# Altium footprint library WePcbLib.PcbLib: 177 footprints (part 1 of 12)
Each footprint in its own frame and in the unit in brackets; x right, y up, seen from the top. Pads: shape width x height; smd on the part's side, far side on the other; paste and mask are expansions set on the pad; w line width, h text height; cw(c..) or ccw(c..) is an arc to the next point about the centre after c.
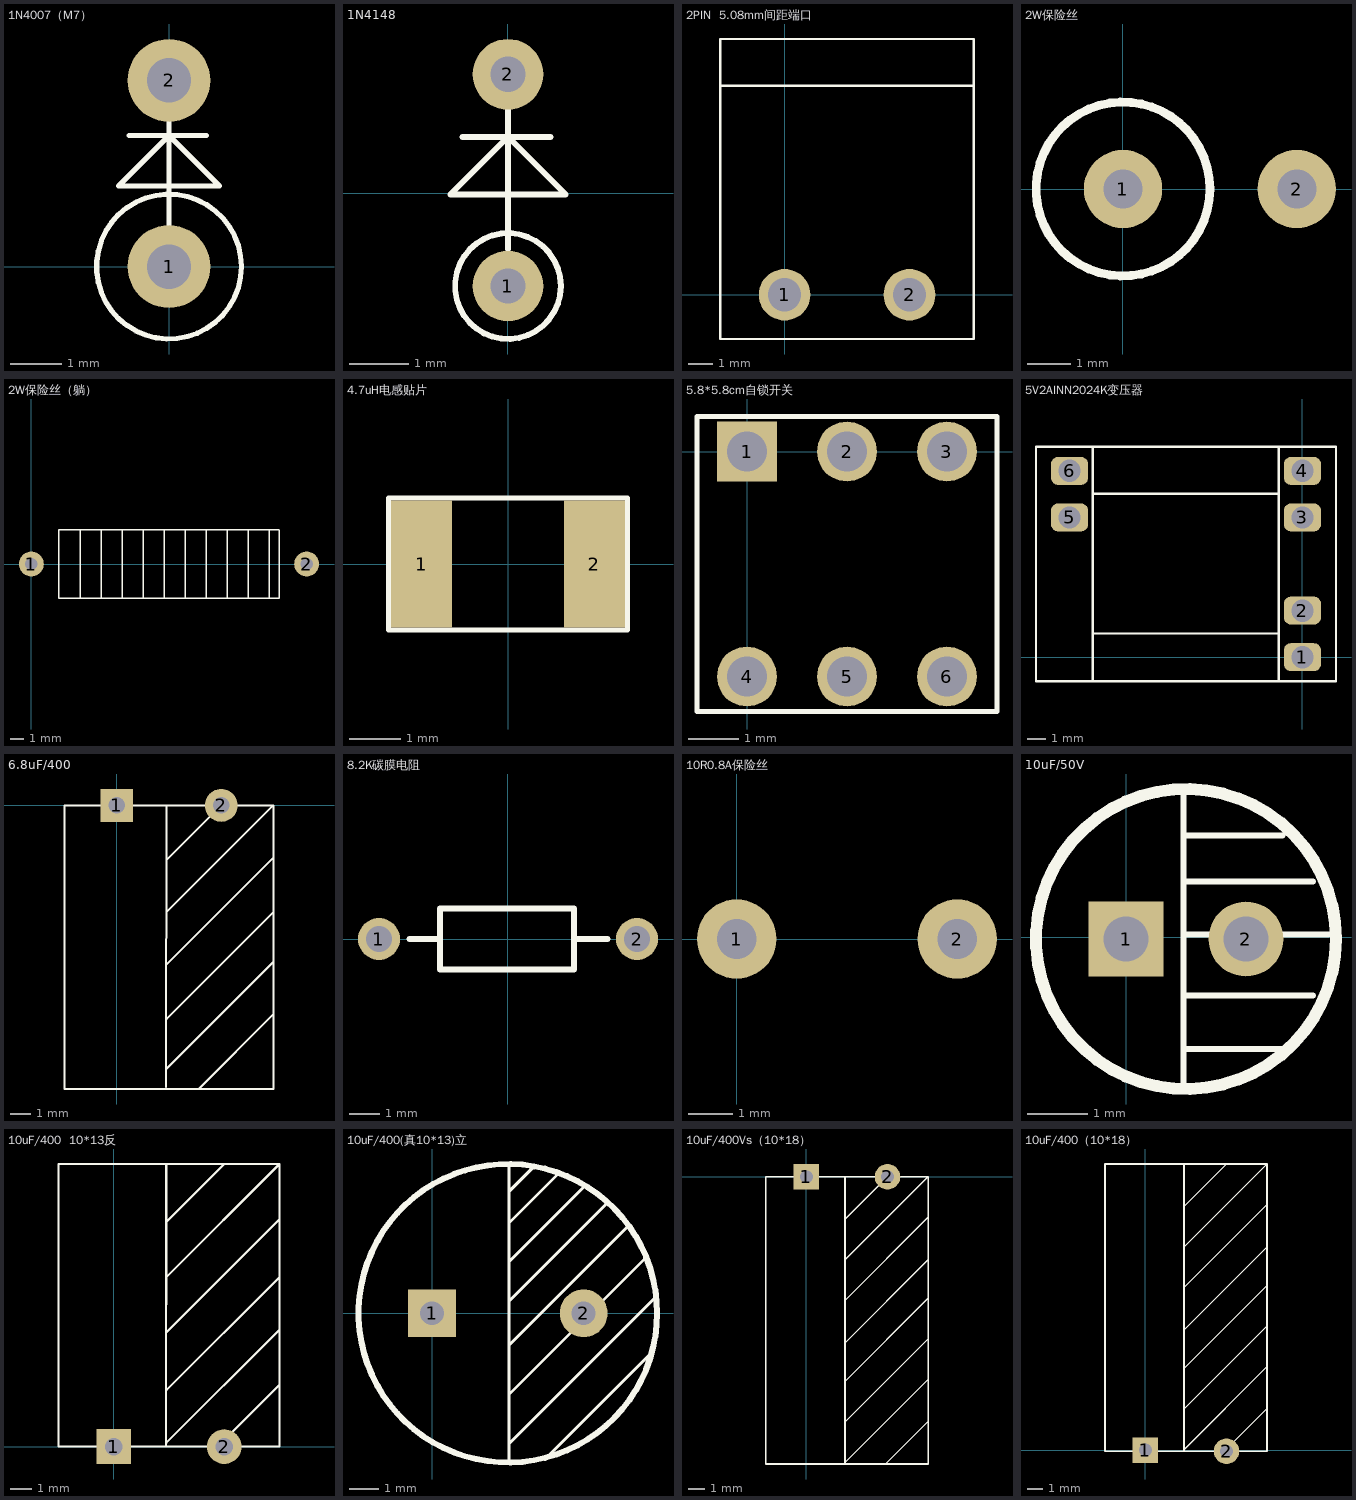
[diagram p0: the footprints below, top view; thin cyan lines are the x and y axes]

## 1N4007（M7） [mm]
pads (2):
  round 1.6 hole 0.86: 1(0,0) 2(0,3.6)
Top Overlay:
  circle w0.1: c0,0 r1.4
  lines w0.1: -0.775,2.536 0.725,2.536 ; 0,0.632 0,3.207 ; -0.976,1.56 0,2.536 0.977,1.56 -0.976,1.56

## 1N4148 [mm]
pads (2):
  round 1.2 hole 0.6: 1(0,-1.575) 2(0,2.025)
Top Overlay:
  circle w0.1: c0,-1.575 r0.9
  lines w0.1: -0.775,0.961 0.725,0.961 ; 0,-0.943 0,1.632 ; -0.976,-0.015 0.977,-0.015 0,0.961 -0.976,-0.015

## 2PIN  5.08mm间距端口 [mm]
pads (2):
  round 2.1 hole 1.35: 1(0,0) 2(5.08,0)
Top Overlay:
  lines w0.1: -2.618,-1.8 7.69,-1.8 7.69,10.4 -2.61,10.4 -2.61,-1.8 ; -2.61,8.5 7.69,8.5

## 2W保险丝 [mm]
pads (2):
  round 1.8 hole 0.9: 1(0,0) 2(4,0)
Top Overlay:
  circle w0.2: c0,0 r2

## 2W保险丝（躺） [mm]
pads (2):
  round 1.8 hole 0.9: 1(0,0) 2(20,0)
Top Overlay:
  lines w0.1: 3.556,-2.413 3.556,2.413 ; 5.08,-2.413 5.08,2.413 ; 6.604,-2.413 6.604,2.413 ; 8.128,-2.413 8.128,2.413 ; 9.652,-2.413 9.652,2.413 ; 11.176,-2.413 11.176,2.413 ; 12.7,-2.413 12.7,2.413 ; 14.224,-2.413 14.224,2.413 ; 15.748,-2.413 15.748,2.413 ; 17.272,-2.413 17.272,2.413 ; 17.975,2.5 2,2.5 2,-2.5 18,-2.5 18,2.5

## 4.7uH电感贴片 [mm]
pads (2):
  rect 1.2x2.5 smd: 1(-1.7,0) 2(1.7,0)
Top Overlay:
  lines w0.1: -2.35,-1.3 2.35,-1.3 2.35,1.3 -2.35,1.3 -2.35,-1.3

## 5.8*5.8cm自锁开关 [mm]
height 4.6
pads (6):
  rect 1.2x1.2 hole 0.8: 1(0,0)
  round 1.2 hole 0.8: 2(2,0) 3(4,0) 4(0,-4.5) 5(2,-4.5) 6(4,-4.5)
Top Overlay:
  lines w0.1: -1,-5.2 5,-5.2 5,0.7 -1,0.7 -1,-5.2

## 5V2AINN2024K变压器 [mm]
pads (6):
  rrect50% 2x1.5 hole 1.2: 1(0,0) 2(0,2.5) 3(0,7.5) 4(0,10) 5(-12.5,7.5) 6(-12.5,10)
Top Overlay:
  lines w0.127: -11.246,-1.3 -11.246,11.3 ; -11.176,1.27 -1.27,1.27 ; -11.176,8.763 -1.27,8.763 ; -1.27,-1.27 -1.27,11.303 ; -14.3,-1.3 1.8,-1.3 1.8,11.3 -14.3,11.3 -14.3,-1.3

## 6.8uF/400 [mm]
pads (2):
  rect 1.6x1.6 hole 0.8: 1(0,0)
  round 1.6 hole 0.8: 2(5.08,0)
Top Overlay:
  lines w0.1: -2.54,-13.8 7.62,-13.8 ; -2.54,-13.75 -2.54,0 7.62,0 ; 2.4,-13.7 2.4,-12.475 ; 2.403,-12.95 2.413,0 ; 2.413,-10.414 7.62,-5.207 7.62,-5.08 ; 2.413,-7.747 7.62,-2.54 ; 2.413,-5.207 7.62,0 ; 2.413,-2.667 5.08,0 5.08,-0.127 ; 4.003,-13.777 7.62,-10.16 ; 7.62,-13.75 7.62,0 ; 2.413,-12.827 7.62,-7.62 2.413,-12.827

## 8.2K碳膜电阻 [mm]
pads (2):
  round 1.4 hole 0.85: 1(-4.3,0) 2(4.3,0)
Top Overlay:
  lines w0.2: -3.284,0 -2.268,0 ; 2.3,0 3.316,0 ; -2.268,-1.016 -2.268,1.016 2.2,1.016 2.2,-1.016 -2.268,-1.016

## 10R0.8A保险丝 [mm]
pads (2):
  round 1.8 hole 0.9: 1(0,0) 2(5,0)

## 10uF/50V [mm]
pads (2):
  rect 1.25x1.25 hole 0.75: 1(0,-0.025)
  round 1.25 hole 0.75: 2(2,-0.025)
Top Overlay:
  circle w0.2: c1,-0.025 r2.5
  lines w0.1: 0.961,-2.494 0.961,2.459 ; 0.961,-1.859 2.612,-1.859 ; 0.961,-0.97 3.12,-0.97 ; 0.961,0.046 3.374,0.046 ; 0.961,0.935 3.12,0.935 ; 0.961,1.697 2.612,1.697

## 10uF/400  10*13反 [mm]
pads (2):
  rect 1.6x1.6 hole 0.8: 1(0,0)
  round 1.6 hole 0.8: 2(5.08,0)
Top Overlay:
  lines w0.1: 2.403,0.05 2.413,13 ; 2.413,0.173 7.62,5.38 ; 2.413,2.586 7.62,7.793 7.62,7.92 ; 2.413,5.253 7.62,10.46 ; 2.413,7.793 7.62,13 ; 2.413,10.333 5.08,13 ; 4.84,0.06 7.62,2.84 ; 7.62,0.207 7.62,0.3 ; 7.62,13 7.62,0 -2.54,0 -2.54,13 7.62,13

## 10uF/400(真10*13)立 [mm]
pads (2):
  rect 1.6x1.6 hole 0.8: 1(0,0)
  round 1.6 hole 0.8: 2(5.08,0)
Top Overlay:
  circle w0.2: c2.54,0 r5
  lines w0.1: 2.575,-2.725 7.15,1.85 7.15,1.875 ; 2.575,3.025 4.2,4.65 4.25,4.65 ; 2.575,4.975 2.575,-5.025 2.6,-5.05 ; 2.6,-4.35 7.5,0.55 7.55,0.55 ; 2.6,-1.05 6.575,2.925 ; 2.6,0.425 5.85,3.675 5.875,3.675 ; 2.6,1.75 5.1,4.25 5.125,4.25 ; 2.6,4.1 3.375,4.875 3.5,4.875 ; 3.8,-4.875 7.325,-1.35 7.325,-1.275

## 10uF/400Vs（10*18） [mm]
pads (2):
  rect 1.6x1.6 hole 0.8: 1(0,0)
  round 1.6 hole 0.8: 2(5.08,0)
Top Overlay:
  lines w0.1: 2.413,-15.367 7.62,-10.16 ; 2.413,-12.827 7.62,-7.62 ; 2.413,-10.414 7.62,-5.207 7.62,-5.08 ; 2.413,-7.747 7.62,-2.54 ; 2.413,-5.207 7.62,0 ; 2.413,-2.667 5.08,0 5.08,-0.127 ; 4.953,-18 7.62,-15.333 7.62,-15.24 ; 7.62,-16.603 7.62,-16.51 ; 7.62,-12.793 7.62,-12.7 2.413,-17.907 2.413,-18 ; 2.413,-18 2.413,0 2.413,-18 ; 7.62,0 -2.54,0 -2.54,-18 7.62,-18 7.62,0

## 10uF/400（10*18） [mm]
pads (2):
  rect 1.6x1.6 hole 0.8: 1(0,0)
  round 1.6 hole 0.8: 2(5.08,-0.076)
Top Overlay:
  lines w0.1: 2.413,2.565 7.62,7.772 ; 2.413,5.105 7.62,10.312 ; 2.413,7.518 7.62,12.725 7.62,12.852 ; 2.413,10.185 7.62,15.392 ; 2.413,12.725 7.62,17.932 ; 2.413,15.265 5.08,17.932 ; 4.953,-0.068 7.62,2.599 7.62,2.692 ; 7.62,1.329 7.62,1.422 ; 7.62,5.139 7.62,5.232 2.413,0.025 2.413,-0.068 ; 2.413,-0.068 2.413,17.932 2.413,-0.068 ; 7.62,17.932 7.62,-0.068 -2.54,-0.068 -2.54,17.932 7.62,17.932